# Altium footprint library PHB.PcbLib: 14 footprints
Each footprint in its own frame and in the unit in brackets; x right, y up, seen from the top. Pads: shape width x height; smd on the part's side, far side on the other; paste and mask are expansions set on the pad; w line width, h text height; cw(c..) or ccw(c..) is an arc to the next point about the centre after c.
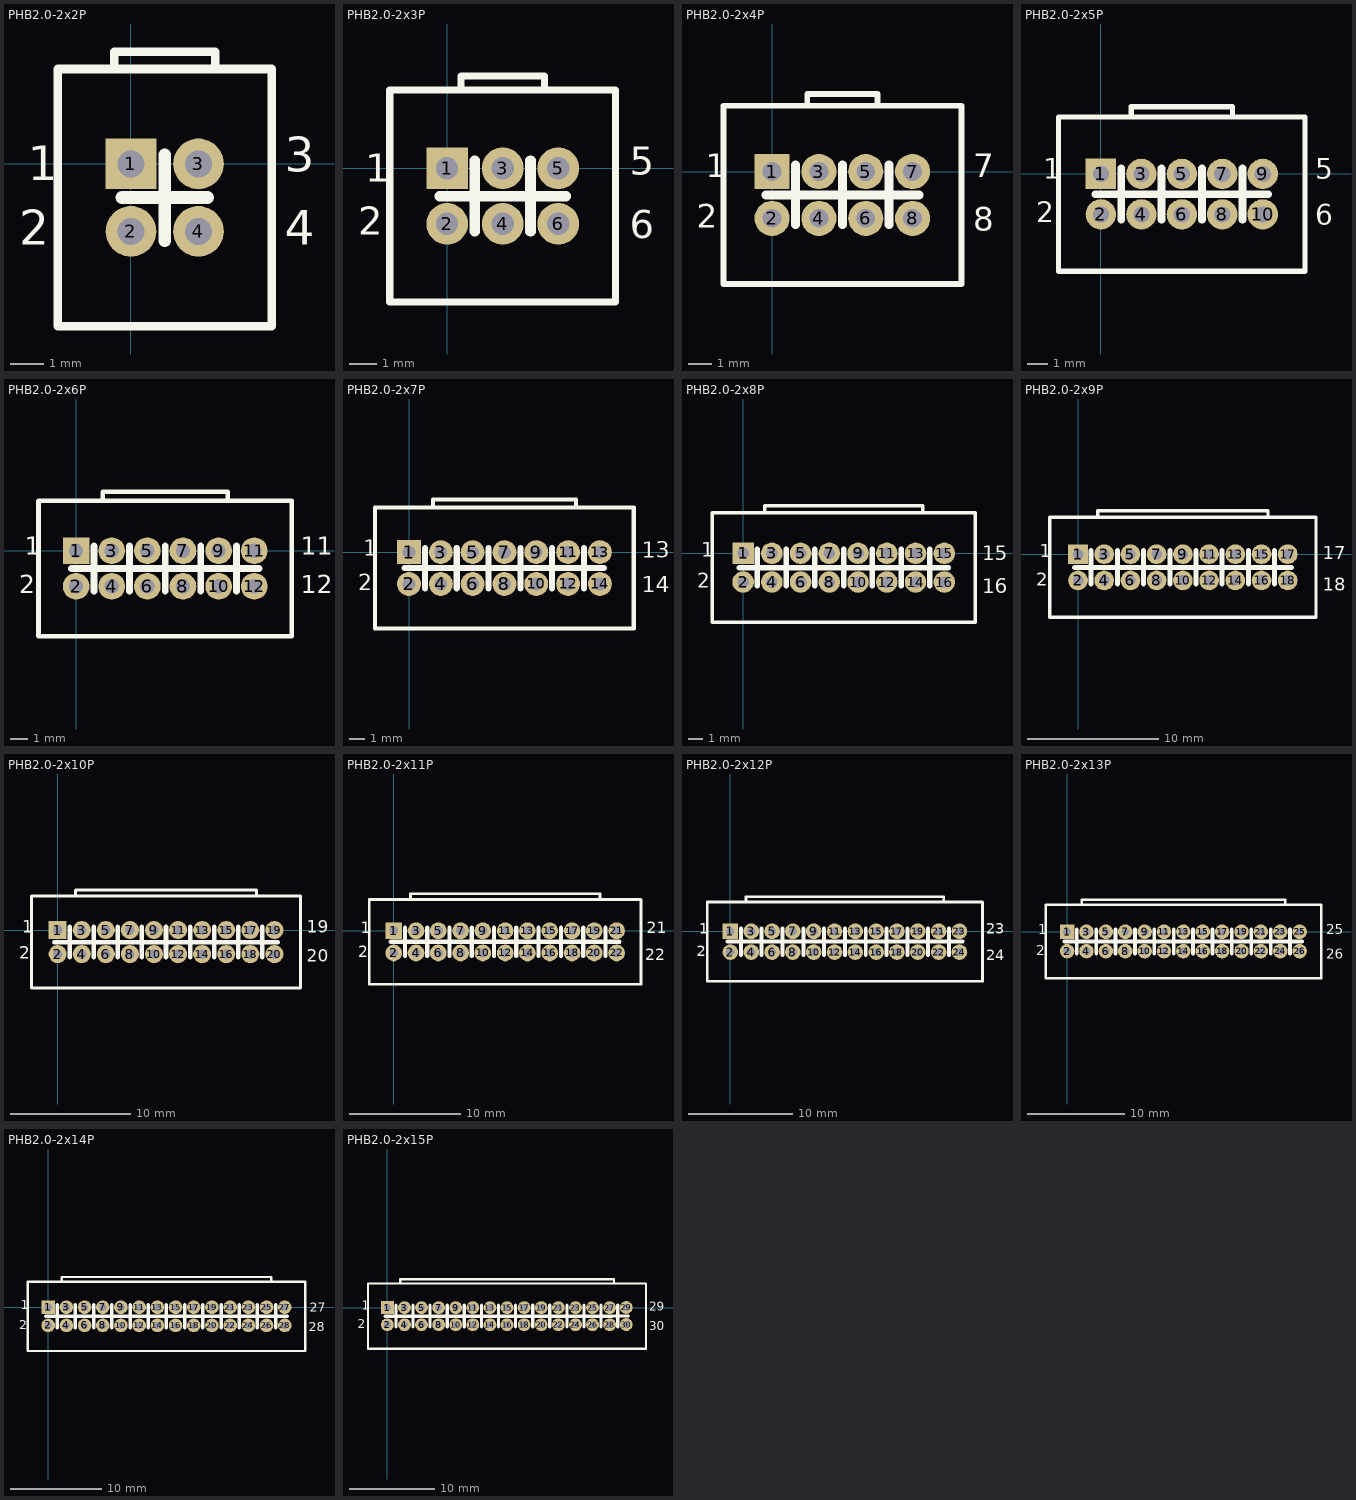
[diagram p0: the footprints below, top view; thin cyan lines are the x and y axes]

## PHB2.0-2x2P [mm]
pads (4):
  rect 1.5x1.5 hole 0.8: 1(0,0)
  round 1.5 hole 0.8: 2(0,-2) 3(2,0) 4(2,-2)
Top Overlay:
  lines w0.254: -0.5,2.81 -0.5,3.318 2.5,3.318 2.5,2.81 ; -2.175,-4.81 4.175,-4.81 4.175,2.81 -2.175,2.81 -2.175,-4.81
  lines w0.381: -0.27,-1 2.27,-1 ; 1,-2.27 1,0.27
  text "2" at -3.318,-2.397 h1.02
  text "3" at 4.556,-0.238 h1.02
  text "4" at 4.556,-2.397 h1.02
  text "1" at -3.064,-0.492 h1.02
Bottom Overlay:
  lines w0.381: -0.27,-1 2.27,-1 ; 1,-2.27 1,0.27
3D body "PHB2.0-LI-2x2P.STEP": height 7.83, standoff -3.37, extent -2.007,-4.636 3.993,3.264

## PHB2.0-2x3P [mm]
pads (6):
  rect 1.5x1.5 hole 0.8: 1(0,0)
  round 1.5 hole 0.8: 2(0,-2) 3(2,0) 4(2,-2) 5(4,0) 6(4,-2)
Top Overlay:
  lines w0.254: 0.5,2.81 0.5,3.318 3.5,3.318 3.5,2.81 ; -2.064,-4.81 -2.064,2.81 6.064,2.81 6.064,-4.81 -2.064,-4.81
  lines w0.381: -0.27,-1 2.27,-1 ; 1,-2.27 1,0.27 ; 1.73,-1 4.27,-1 ; 3,-2.27 3,0.27
  text "2" at -3.207,-2.397 h1.02
  text "6" at 6.572,-2.524 h1.02
  text "5" at 6.572,-0.238 h1.02
  text "1" at -2.953,-0.492 h1.02
Bottom Overlay:
  lines w0.381: -0.27,-1 2.27,-1 ; 1,-2.27 1,0.27 ; 1.73,-1 4.27,-1 ; 3,-2.27 3,0.27
3D body "PHB2.0-LI-2x3P.STEP": height 7.83, standoff -3.37, extent -1.981,-4.661 6.019,3.239

## PHB2.0-2x4P [mm]
pads (8):
  rect 1.5x1.5 hole 0.8: 1(0,0)
  round 1.5 hole 0.8: 2(0,-2) 3(2,0) 4(2,-2) 5(4,0) 6(4,-2) 7(6,0) 8(6,-2)
Top Overlay:
  lines w0.254: 1.5,2.81 1.5,3.318 4.5,3.318 4.5,2.81 ; -2.08,-4.81 8.08,-4.81 8.08,2.81 -2.08,2.81 -2.08,-4.81
  lines w0.381: -0.27,-1 2.27,-1 ; 1,-2.27 1,0.27 ; 1.73,-1 4.27,-1 ; 3,-2.27 3,0.27 ; 3.73,-1 6.27,-1 ; 5,-2.27 5,0.27
  text "2" at -3.207,-2.397 h1.02
  text "1" at -2.842,-0.238 h1.02
  text "7" at 8.588,-0.238 h1.02
  text "8" at 8.588,-2.524 h1.02
Bottom Overlay:
  lines w0.381: -0.27,-1 2.27,-1 ; 1,-2.27 1,0.27 ; 1.73,-1 4.27,-1 ; 3,-2.27 3,0.27 ; 3.73,-1 6.27,-1 ; 5,-2.27 5,0.27
3D body "PHB2.0-LI-2x4P.STEP": height 7.83, standoff -3.37, extent -2.054,-4.648 7.946,3.252

## PHB2.0-2x5P [mm]
pads (10):
  rect 1.5x1.5 hole 0.8: 1(0,0)
  round 1.5 hole 0.8: 2(0,-2) 3(2,0) 4(2,-2) 5(4,0) 6(4,-2) 7(6,0) 8(6,-2) 9(8,0) 10(8,-2)
Top Overlay:
  lines w0.254: 1.5,2.81 1.5,3.318 6.5,3.318 6.5,2.81 ; -2.096,-4.81 10.096,-4.81 10.096,2.81 -2.096,2.81 -2.096,-4.81
  lines w0.381: -0.27,-1 2.27,-1 ; 1,-2.27 1,0.27 ; 1.73,-1 4.27,-1 ; 3,-2.27 3,0.27 ; 3.73,-1 6.27,-1 ; 5,-2.27 5,0.27 ; 5.73,-1 8.27,-1 ; 7,-2.27 7,0.27
  text "2" at -3.207,-2.397 h1.02
  text "1" at -2.858,-0.238 h1.02
  text "5" at 10.604,-0.238 h1.02
  text "6" at 10.604,-2.524 h1.02
Bottom Overlay:
  lines w0.381: -0.27,-1 2.27,-1 ; 1,-2.27 1,0.27 ; 1.73,-1 4.27,-1 ; 3,-2.27 3,0.27 ; 3.73,-1 6.27,-1 ; 5,-2.27 5,0.27 ; 5.73,-1 8.27,-1 ; 7,-2.27 7,0.27
3D body "PHB2.0-LI-2x5P.STEP": height 7.83, standoff -3.37, extent -2.038,-4.674 9.962,3.226

## PHB2.0-2x6P [mm]
pads (12):
  rect 1.5x1.5 hole 0.8: 1(0,0)
  round 1.5 hole 0.8: 2(0,-2) 3(2,0) 4(2,-2) 5(4,0) 6(4,-2) 7(6,0) 8(6,-2) 9(8,0) 10(8,-2) 11(10,0) 12(10,-2)
Top Overlay:
  lines w0.254: 1.5,2.81 1.5,3.318 8.5,3.318 8.5,2.81 ; -2.112,-4.81 -2.112,2.81 12.112,2.81 12.112,-4.81 -2.112,-4.81
  lines w0.381: -0.27,-1 2.27,-1 ; 1,-2.27 1,0.27 ; 1.73,-1 4.27,-1 ; 3,-2.27 3,0.27 ; 3.73,-1 6.27,-1 ; 5,-2.27 5,0.27 ; 5.73,-1 8.27,-1 ; 7,-2.27 7,0.27 ; 7.73,-1 10.27,-1 ; 9,-2.27 9,0.27
  text "2" at -3.207,-2.397 h1.02
  text "11" at 12.62,-0.238 h1.02
  text "1" at -2.874,-0.238 h1.02
  text "12" at 12.62,-2.397 h1.02
Bottom Overlay:
  lines w0.381: -0.27,-1 2.27,-1 ; 1,-2.27 1,0.27 ; 1.73,-1 4.27,-1 ; 3,-2.27 3,0.27 ; 3.73,-1 6.27,-1 ; 5,-2.27 5,0.27 ; 5.73,-1 8.27,-1 ; 7,-2.27 7,0.27 ; 7.73,-1 10.27,-1 ; 9,-2.27 9,0.27
3D body "PHB2.0-LI-2x6P.STEP": height 7.83, standoff -3.37, extent -1.981,-4.661 12.019,3.239

## PHB2.0-2x7P [mm]
pads (14):
  rect 1.5x1.5 hole 0.8: 1(0,0)
  round 1.5 hole 0.8: 2(0,-2) 3(2,0) 4(2,-2) 5(4,0) 6(4,-2) 7(6,0) 8(6,-2) 9(8,0) 10(8,-2) 11(10,0) 12(10,-2) 13(12,0) 14(12,-2)
Top Overlay:
  lines w0.254: 1.5,2.81 1.5,3.318 10.5,3.318 10.5,2.81 ; -2.128,-4.81 14.128,-4.81 14.128,2.81 -2.128,2.81 -2.128,-4.81
  lines w0.381: -0.27,-1 2.27,-1 ; 1,-2.27 1,0.27 ; 1.73,-1 4.27,-1 ; 3,-2.27 3,0.27 ; 3.73,-1 6.27,-1 ; 5,-2.27 5,0.27 ; 5.73,-1 8.27,-1 ; 7,-2.27 7,0.27 ; 7.73,-1 10.27,-1 ; 9,-2.27 9,0.27 ; 9.73,-1 12.27,-1 ; 11,-2.27 11,0.27
  text "14" at 14.636,-2.524 h1.02
  text "1" at -2.89,-0.238 h1.02
  text "13" at 14.636,-0.365 h1.02
  text "2" at -3.207,-2.397 h1.02
Bottom Overlay:
  lines w0.381: -0.27,-1 2.27,-1 ; 1,-2.27 1,0.27 ; 1.73,-1 4.27,-1 ; 3,-2.27 3,0.27 ; 3.73,-1 6.27,-1 ; 5,-2.27 5,0.27 ; 5.73,-1 8.27,-1 ; 7,-2.27 7,0.27 ; 7.73,-1 10.27,-1 ; 9,-2.27 9,0.27 ; 9.73,-1 12.27,-1 ; 11,-2.27 11,0.27
Mechanical 15:
  lines w0.05: 5.5,-1 6.5,-1
3D body "PHB2.0-LI-2x7P.STEP": height 7.83, standoff -3.37, extent -2.006,-4.674 13.994,3.226

## PHB2.0-2x8P [mm]
pads (16):
  rect 1.5x1.5 hole 0.8: 1(0,0)
  round 1.5 hole 0.8: 2(0,-2) 3(2,0) 4(2,-2) 5(4,0) 6(4,-2) 7(6,0) 8(6,-2) 9(8,0) 10(8,-2) 11(10,0) 12(10,-2) 13(12,0) 14(12,-2) 15(14,0) 16(14,-2)
Top Overlay:
  lines w0.254: 1.5,2.81 1.5,3.318 12.5,3.318 12.5,2.81 ; -2.144,-4.81 16.144,-4.81 16.144,2.81 -2.144,2.81 -2.144,-4.81
  lines w0.381: -0.27,-1 2.27,-1 ; 1,-2.27 1,0.27 ; 1.73,-1 4.27,-1 ; 3,-2.27 3,0.27 ; 3.73,-1 6.27,-1 ; 5,-2.27 5,0.27 ; 5.73,-1 8.27,-1 ; 7,-2.27 7,0.27 ; 7.73,-1 10.27,-1 ; 9,-2.27 9,0.27 ; 9.73,-1 12.27,-1 ; 11,-2.27 11,0.27 ; 11.73,-1 14.27,-1 ; 13,-2.27 13,0.27
  text "2" at -3.207,-2.397 h1.02
  text "1" at -2.906,-0.238 h1.02
  text "15" at 16.652,-0.492 h1.02
  text "16" at 16.652,-2.778 h1.02
Bottom Overlay:
  lines w0.381: -0.27,-1 2.27,-1 ; 1,-2.27 1,0.27 ; 1.73,-1 4.27,-1 ; 3,-2.27 3,0.27 ; 3.73,-1 6.27,-1 ; 5,-2.27 5,0.27 ; 5.73,-1 8.27,-1 ; 7,-2.27 7,0.27 ; 7.73,-1 10.27,-1 ; 9,-2.27 9,0.27 ; 9.73,-1 12.27,-1 ; 11,-2.27 11,0.27 ; 11.73,-1 14.27,-1 ; 13,-2.27 13,0.27
3D body "PHB2.0-LI-2x8P.STEP": height 7.83, standoff -3.37, extent -2.015,-4.649 15.985,3.251

## PHB2.0-2x9P [mm]
pads (18):
  rect 1.5x1.5 hole 0.8: 1(0,0)
  round 1.5 hole 0.8: 2(0,-2) 3(2,0) 4(2,-2) 5(4,0) 6(4,-2) 7(6,0) 8(6,-2) 9(8,0) 10(8,-2) 11(10,0) 12(10,-2) 13(12,0) 14(12,-2) 15(14,0) 16(14,-2) 17(16,0) 18(16,-2)
Top Overlay:
  lines w0.254: 1.5,2.81 1.5,3.318 14.5,3.318 14.5,2.81 ; -2.16,-4.81 18.16,-4.81 18.16,2.81 -2.16,2.81 -2.16,-4.81
  lines w0.381: -0.27,-1 2.27,-1 ; 1,-2.27 1,0.27 ; 1.73,-1 4.27,-1 ; 3,-2.27 3,0.27 ; 3.73,-1 6.27,-1 ; 5,-2.27 5,0.27 ; 5.73,-1 8.27,-1 ; 7,-2.27 7,0.27 ; 7.73,-1 10.27,-1 ; 9,-2.27 9,0.27 ; 9.73,-1 12.27,-1 ; 11,-2.27 11,0.27 ; 11.73,-1 14.27,-1 ; 13,-2.27 13,0.27 ; 13.73,-1 16.27,-1 ; 15,-2.27 15,0.27
  text "2" at -3.207,-2.397 h1.02
  text "1" at -2.922,-0.238 h1.02
  text "17" at 18.668,-0.365 h1.02
  text "18" at 18.668,-2.778 h1.02
Bottom Overlay:
  lines w0.381: -0.27,-1 2.27,-1 ; 1,-2.27 1,0.27 ; 1.73,-1 4.27,-1 ; 3,-2.27 3,0.27 ; 3.73,-1 6.27,-1 ; 5,-2.27 5,0.27 ; 5.73,-1 8.27,-1 ; 7,-2.27 7,0.27 ; 7.73,-1 10.27,-1 ; 9,-2.27 9,0.27 ; 9.73,-1 12.27,-1 ; 11,-2.27 11,0.27 ; 11.73,-1 14.27,-1 ; 13,-2.27 13,0.27 ; 13.73,-1 16.27,-1 ; 15,-2.27 15,0.27
3D body "PHB2.0-LI-2x9P.STEP": height 7.83, standoff -3.37, extent -2.042,-4.636 17.958,3.264

## PHB2.0-2x10P [mm]
pads (20):
  rect 1.5x1.5 hole 0.8: 1(0,0)
  round 1.5 hole 0.8: 2(0,-2) 3(2,0) 4(2,-2) 5(4,0) 6(4,-2) 7(6,0) 8(6,-2) 9(8,0) 10(8,-2) 11(10,0) 12(10,-2) 13(12,0) 14(12,-2) 15(14,0) 16(14,-2) 17(16,0) 18(16,-2) 19(18,0) 20(18,-2)
Top Overlay:
  lines w0.254: 1.5,2.81 1.5,3.318 16.5,3.318 16.5,2.81 ; -2.176,-4.81 20.176,-4.81 20.176,2.81 -2.176,2.81 -2.176,-4.81
  lines w0.381: -0.27,-1 2.27,-1 ; 1,-2.27 1,0.27 ; 1.73,-1 4.27,-1 ; 3,-2.27 3,0.27 ; 3.73,-1 6.27,-1 ; 5,-2.27 5,0.27 ; 5.73,-1 8.27,-1 ; 7,-2.27 7,0.27 ; 7.73,-1 10.27,-1 ; 9,-2.27 9,0.27 ; 9.73,-1 12.27,-1 ; 11,-2.27 11,0.27 ; 11.73,-1 14.27,-1 ; 13,-2.27 13,0.27 ; 13.73,-1 16.27,-1 ; 15,-2.27 15,0.27 ; 15.73,-1 18.27,-1 ; 17,-2.27 17,0.27
  text "2" at -3.207,-2.397 h1.02
  text "1" at -2.938,-0.238 h1.02
  text "19" at 20.684,-0.238 h1.02
  text "20" at 20.684,-2.651 h1.02
Bottom Overlay:
  lines w0.381: -0.27,-1 2.27,-1 ; 1,-2.27 1,0.27 ; 1.73,-1 4.27,-1 ; 3,-2.27 3,0.27 ; 3.73,-1 6.27,-1 ; 5,-2.27 5,0.27 ; 5.73,-1 8.27,-1 ; 7,-2.27 7,0.27 ; 7.73,-1 10.27,-1 ; 9,-2.27 9,0.27 ; 9.73,-1 12.27,-1 ; 11,-2.27 11,0.27 ; 11.73,-1 14.27,-1 ; 13,-2.27 13,0.27 ; 13.73,-1 16.27,-1 ; 15,-2.27 15,0.27 ; 15.73,-1 18.27,-1 ; 17,-2.27 17,0.27
3D body "PHB2.0-LI-2x10P.STEP": height 7.83, standoff -3.37, extent -2.036,-4.661 19.964,3.239

## PHB2.0-2x11P [mm]
pads (22):
  rect 1.5x1.5 hole 0.8: 1(0,0)
  round 1.5 hole 0.8: 2(0,-2) 3(2,0) 4(2,-2) 5(4,0) 6(4,-2) 7(6,0) 8(6,-2) 9(8,0) 10(8,-2) 11(10,0) 12(10,-2) 13(12,0) 14(12,-2) 15(14,0) 16(14,-2) 17(16,0) 18(16,-2) 19(18,0) 20(18,-2) 21(20,0) 22(20,-2)
Top Overlay:
  lines w0.254: 1.5,2.81 1.5,3.318 18.5,3.318 18.5,2.81 ; -2.192,-4.81 22.192,-4.81 22.192,2.81 -2.192,2.81 -2.192,-4.81
  lines w0.381: -0.27,-1 2.27,-1 ; 1,-2.27 1,0.27 ; 1.73,-1 4.27,-1 ; 3,-2.27 3,0.27 ; 3.73,-1 6.27,-1 ; 5,-2.27 5,0.27 ; 5.73,-1 8.27,-1 ; 7,-2.27 7,0.27 ; 7.73,-1 10.27,-1 ; 9,-2.27 9,0.27 ; 9.73,-1 12.27,-1 ; 11,-2.27 11,0.27 ; 11.73,-1 14.27,-1 ; 13,-2.27 13,0.27 ; 13.73,-1 16.27,-1 ; 15,-2.27 15,0.27 ; 15.73,-1 18.27,-1 ; 17,-2.27 17,0.27 ; 17.73,-1 20.27,-1 ; 19,-2.27 19,0.27
  text "2" at -3.207,-2.397 h1.02
  text "1" at -2.954,-0.238 h1.02
  text "21" at 22.7,-0.238 h1.02
  text "22" at 22.573,-2.651 h1.02
Bottom Overlay:
  lines w0.381: -0.27,-1 2.27,-1 ; 1,-2.27 1,0.27 ; 1.73,-1 4.27,-1 ; 3,-2.27 3,0.27 ; 3.73,-1 6.27,-1 ; 5,-2.27 5,0.27 ; 5.73,-1 8.27,-1 ; 7,-2.27 7,0.27 ; 7.73,-1 10.27,-1 ; 9,-2.27 9,0.27 ; 9.73,-1 12.27,-1 ; 11,-2.27 11,0.27 ; 11.73,-1 14.27,-1 ; 13,-2.27 13,0.27 ; 13.73,-1 16.27,-1 ; 15,-2.27 15,0.27 ; 15.73,-1 18.27,-1 ; 17,-2.27 17,0.27 ; 17.73,-1 20.27,-1 ; 19,-2.27 19,0.27
3D body "PHB2.0-LI-2x11P.STEP": height 7.83, standoff -3.37, extent -2.029,-4.674 21.971,3.226

## PHB2.0-2x12P [mm]
pads (24):
  rect 1.5x1.5 hole 0.8: 1(0,0)
  round 1.5 hole 0.8: 2(0,-2) 3(2,0) 4(2,-2) 5(4,0) 6(4,-2) 7(6,0) 8(6,-2) 9(8,0) 10(8,-2) 11(10,0) 12(10,-2) 13(12,0) 14(12,-2) 15(14,0) 16(14,-2) 17(16,0) 18(16,-2) 19(18,0) 20(18,-2) 21(20,0) 22(20,-2) 23(22,0) 24(22,-2)
Top Overlay:
  lines w0.254: 1.5,2.81 1.5,3.318 20.5,3.318 20.5,2.81 ; -2.208,-4.81 -2.208,2.81 24.208,2.81 24.208,-4.81 -2.208,-4.81
  lines w0.381: -0.27,-1 2.27,-1 ; 1,-2.27 1,0.27 ; 1.73,-1 4.27,-1 ; 3,-2.27 3,0.27 ; 3.73,-1 6.27,-1 ; 5,-2.27 5,0.27 ; 5.73,-1 8.27,-1 ; 7,-2.27 7,0.27 ; 7.73,-1 10.27,-1 ; 9,-2.27 9,0.27 ; 9.73,-1 12.27,-1 ; 11,-2.27 11,0.27 ; 11.73,-1 14.27,-1 ; 13,-2.27 13,0.27 ; 13.73,-1 16.27,-1 ; 15,-2.27 15,0.27 ; 15.73,-1 18.27,-1 ; 17,-2.27 17,0.27 ; 17.73,-1 20.27,-1 ; 19,-2.27 19,0.27 ; 19.73,-1 22.27,-1 ; 21,-2.27 21,0.27
  text "24" at 24.589,-2.778 h1.02
  text "23" at 24.589,-0.238 h1.02
  text "1" at -2.97,-0.238 h1.02
  text "2" at -3.207,-2.397 h1.02
Bottom Overlay:
  lines w0.381: -0.27,-1 2.27,-1 ; 1,-2.27 1,0.27 ; 1.73,-1 4.27,-1 ; 3,-2.27 3,0.27 ; 3.73,-1 6.27,-1 ; 5,-2.27 5,0.27 ; 5.73,-1 8.27,-1 ; 7,-2.27 7,0.27 ; 7.73,-1 10.27,-1 ; 9,-2.27 9,0.27 ; 9.73,-1 12.27,-1 ; 11,-2.27 11,0.27 ; 11.73,-1 14.27,-1 ; 13,-2.27 13,0.27 ; 13.73,-1 16.27,-1 ; 15,-2.27 15,0.27 ; 15.73,-1 18.27,-1 ; 17,-2.27 17,0.27 ; 17.73,-1 20.27,-1 ; 19,-2.27 19,0.27 ; 19.73,-1 22.27,-1 ; 21,-2.27 21,0.27
3D body "PHB2.0-LI-2x12P.STEP": height 7.83, standoff -3.37, extent -1.997,-4.661 24.003,3.239

## PHB2.0-2x13P [mm]
pads (26):
  rect 1.5x1.5 hole 0.8: 1(0,0)
  round 1.5 hole 0.8: 2(0,-2) 3(2,0) 4(2,-2) 5(4,0) 6(4,-2) 7(6,0) 8(6,-2) 9(8,0) 10(8,-2) 11(10,0) 12(10,-2) 13(12,0) 14(12,-2) 15(14,0) 16(14,-2) 17(16,0) 18(16,-2) 19(18,0) 20(18,-2) 21(20,0) 22(20,-2) 23(22,0) 24(22,-2) 25(24,0) 26(24,-2)
Top Overlay:
  lines w0.254: 1.5,2.81 1.5,3.318 22.5,3.318 22.5,2.81 ; -2.224,-4.81 -2.224,2.81 26.224,2.81 26.224,-4.81 -2.224,-4.81
  lines w0.381: -0.27,-1 2.27,-1 ; 1,-2.27 1,0.27 ; 1.73,-1 4.27,-1 ; 3,-2.27 3,0.27 ; 3.73,-1 6.27,-1 ; 5,-2.27 5,0.27 ; 5.73,-1 8.27,-1 ; 7,-2.27 7,0.27 ; 7.73,-1 10.27,-1 ; 9,-2.27 9,0.27 ; 9.73,-1 12.27,-1 ; 11,-2.27 11,0.27 ; 11.73,-1 14.27,-1 ; 13,-2.27 13,0.27 ; 13.73,-1 16.27,-1 ; 15,-2.27 15,0.27 ; 15.73,-1 18.27,-1 ; 17,-2.27 17,0.27 ; 17.73,-1 20.27,-1 ; 19,-2.27 19,0.27 ; 19.73,-1 22.27,-1 ; 21,-2.27 21,0.27 ; 21.73,-1 24.27,-1 ; 23,-2.27 23,0.27
  text "2" at -3.207,-2.397 h1.02
  text "26" at 26.732,-2.778 h1.02
  text "25" at 26.732,-0.238 h1.02
  text "1" at -2.986,-0.238 h1.02
Bottom Overlay:
  lines w0.381: -0.27,-1 2.27,-1 ; 1,-2.27 1,0.27 ; 1.73,-1 4.27,-1 ; 3,-2.27 3,0.27 ; 3.73,-1 6.27,-1 ; 5,-2.27 5,0.27 ; 5.73,-1 8.27,-1 ; 7,-2.27 7,0.27 ; 7.73,-1 10.27,-1 ; 9,-2.27 9,0.27 ; 9.73,-1 12.27,-1 ; 11,-2.27 11,0.27 ; 11.73,-1 14.27,-1 ; 13,-2.27 13,0.27 ; 13.73,-1 16.27,-1 ; 15,-2.27 15,0.27 ; 15.73,-1 18.27,-1 ; 17,-2.27 17,0.27 ; 17.73,-1 20.27,-1 ; 19,-2.27 19,0.27 ; 19.73,-1 22.27,-1 ; 21,-2.27 21,0.27 ; 21.73,-1 24.27,-1 ; 23,-2.27 23,0.27
Mechanical 15:
  lines w0.05: 11.5,-1 12.5,-1
3D body "PHB2.0-LI-2x13P.STEP": height 7.83, standoff -3.37, extent -2.016,-4.661 25.984,3.239

## PHB2.0-2x14P [mm]
pads (28):
  rect 1.5x1.5 hole 0.8: 1(0,0)
  round 1.5 hole 0.8: 2(0,-2) 3(2,0) 4(2,-2) 5(4,0) 6(4,-2) 7(6,0) 8(6,-2) 9(8,0) 10(8,-2) 11(10,0) 12(10,-2) 13(12,0) 14(12,-2) 15(14,0) 16(14,-2) 17(16,0) 18(16,-2) 19(18,0) 20(18,-2) 21(20,0) 22(20,-2) 23(22,0) 24(22,-2) 25(24,0) 26(24,-2) 27(26,0) 28(26,-2)
Top Overlay:
  lines w0.254: 1.5,2.81 1.5,3.318 24.5,3.318 24.5,2.81 ; -2.24,-4.81 28.24,-4.81 28.24,2.81 -2.24,2.81 -2.24,-4.81
  lines w0.381: -0.27,-1 2.27,-1 ; 1,-2.27 1,0.27 ; 1.73,-1 4.27,-1 ; 3,-2.27 3,0.27 ; 3.73,-1 6.27,-1 ; 5,-2.27 5,0.27 ; 5.73,-1 8.27,-1 ; 7,-2.27 7,0.27 ; 7.73,-1 10.27,-1 ; 9,-2.27 9,0.27 ; 9.73,-1 12.27,-1 ; 11,-2.27 11,0.27 ; 11.73,-1 14.27,-1 ; 13,-2.27 13,0.27 ; 13.73,-1 16.27,-1 ; 15,-2.27 15,0.27 ; 15.73,-1 18.27,-1 ; 17,-2.27 17,0.27 ; 17.73,-1 20.27,-1 ; 19,-2.27 19,0.27 ; 19.73,-1 22.27,-1 ; 21,-2.27 21,0.27 ; 21.73,-1 24.27,-1 ; 23,-2.27 23,0.27 ; 23.73,-1 26.27,-1 ; 25,-2.27 25,0.27
  text "1" at -3.002,-0.238 h1.02
  text "27" at 28.748,-0.492 h1.02
  text "28" at 28.621,-2.651 h1.02
  text "2" at -3.207,-2.397 h1.02
Bottom Overlay:
  lines w0.381: -0.27,-1 2.27,-1 ; 1,-2.27 1,0.27 ; 1.73,-1 4.27,-1 ; 3,-2.27 3,0.27 ; 3.73,-1 6.27,-1 ; 5,-2.27 5,0.27 ; 5.73,-1 8.27,-1 ; 7,-2.27 7,0.27 ; 7.73,-1 10.27,-1 ; 9,-2.27 9,0.27 ; 9.73,-1 12.27,-1 ; 11,-2.27 11,0.27 ; 11.73,-1 14.27,-1 ; 13,-2.27 13,0.27 ; 13.73,-1 16.27,-1 ; 15,-2.27 15,0.27 ; 15.73,-1 18.27,-1 ; 17,-2.27 17,0.27 ; 17.73,-1 20.27,-1 ; 19,-2.27 19,0.27 ; 19.73,-1 22.27,-1 ; 21,-2.27 21,0.27 ; 21.73,-1 24.27,-1 ; 23,-2.27 23,0.27 ; 23.73,-1 26.27,-1 ; 25,-2.27 25,0.27
3D body "PHB2.0-LI-2x14P.STEP": height 7.83, standoff -3.37, extent -2.035,-4.674 27.965,3.226

## PHB2.0-2x15P [mm]
pads (30):
  rect 1.5x1.5 hole 0.8: 1(0,0)
  round 1.5 hole 0.8: 2(0,-2) 3(2,0) 4(2,-2) 5(4,0) 6(4,-2) 7(6,0) 8(6,-2) 9(8,0) 10(8,-2) 11(10,0) 12(10,-2) 13(12,0) 14(12,-2) 15(14,0) 16(14,-2) 17(16,0) 18(16,-2) 19(18,0) 20(18,-2) 21(20,0) 22(20,-2) 23(22,0) 24(22,-2) 25(24,0) 26(24,-2) 27(26,0) 28(26,-2) 29(27.938,0.016) 30(27.938,-1.984)
Top Overlay:
  lines w0.254: 1.5,2.81 1.5,3.318 26.5,3.318 26.5,2.81 ; -2.256,-4.81 -2.256,2.81 30.256,2.81 30.256,-4.81 -2.256,-4.81
  lines w0.381: -0.27,-1 2.27,-1 ; 1,-2.27 1,0.27 ; 1.73,-1 4.27,-1 ; 3,-2.27 3,0.27 ; 3.73,-1 6.27,-1 ; 5,-2.27 5,0.27 ; 5.73,-1 8.27,-1 ; 7,-2.27 7,0.27 ; 7.73,-1 10.27,-1 ; 9,-2.27 9,0.27 ; 9.73,-1 12.27,-1 ; 11,-2.27 11,0.27 ; 11.73,-1 14.27,-1 ; 13,-2.27 13,0.27 ; 13.73,-1 16.27,-1 ; 15,-2.27 15,0.27 ; 15.73,-1 18.27,-1 ; 17,-2.27 17,0.27 ; 17.73,-1 20.27,-1 ; 19,-2.27 19,0.27 ; 19.73,-1 22.27,-1 ; 21,-2.27 21,0.27 ; 21.73,-1 24.27,-1 ; 23,-2.27 23,0.27 ; 23.73,-1 26.27,-1 ; 25,-2.27 25,0.27 ; 25.668,-0.984 28.208,-0.984 ; 26.938,-2.254 26.938,0.286
  text "30" at 30.637,-2.651 h1.02
  text "1" at -3.018,-0.238 h1.02
  text "2" at -3.431,-2.413 h1.02
  text "29" at 30.637,-0.365 h1.02
Bottom Overlay:
  lines w0.381: -0.27,-1 2.27,-1 ; 1,-2.27 1,0.27 ; 1.73,-1 4.27,-1 ; 3,-2.27 3,0.27 ; 3.73,-1 6.27,-1 ; 5,-2.27 5,0.27 ; 5.73,-1 8.27,-1 ; 7,-2.27 7,0.27 ; 7.73,-1 10.27,-1 ; 9,-2.27 9,0.27 ; 9.73,-1 12.27,-1 ; 11,-2.27 11,0.27 ; 11.73,-1 14.27,-1 ; 13,-2.27 13,0.27 ; 13.73,-1 16.27,-1 ; 15,-2.27 15,0.27 ; 15.73,-1 18.27,-1 ; 17,-2.27 17,0.27 ; 17.73,-1 20.27,-1 ; 19,-2.27 19,0.27 ; 19.73,-1 22.27,-1 ; 21,-2.27 21,0.27 ; 21.73,-1 24.27,-1 ; 23,-2.27 23,0.27 ; 23.73,-1 26.27,-1 ; 25,-2.27 25,0.27 ; 25.668,-0.984 28.208,-0.984 ; 26.938,-2.254 26.938,0.286
3D body "PHB2.0-LI-2x15P.STEP": height 7.83, standoff -3.37, extent -2.003,-4.661 29.997,3.239